# Altium footprint library 7.接插件封装.PcbLib: 201 footprints (part 4 of 13)
Each footprint in its own frame and in the unit in brackets; x right, y up, seen from the top. Pads: shape width x height; smd on the part's side, far side on the other; paste and mask are expansions set on the pad; w line width, h text height; cw(c..) or ccw(c..) is an arc to the next point about the centre after c.
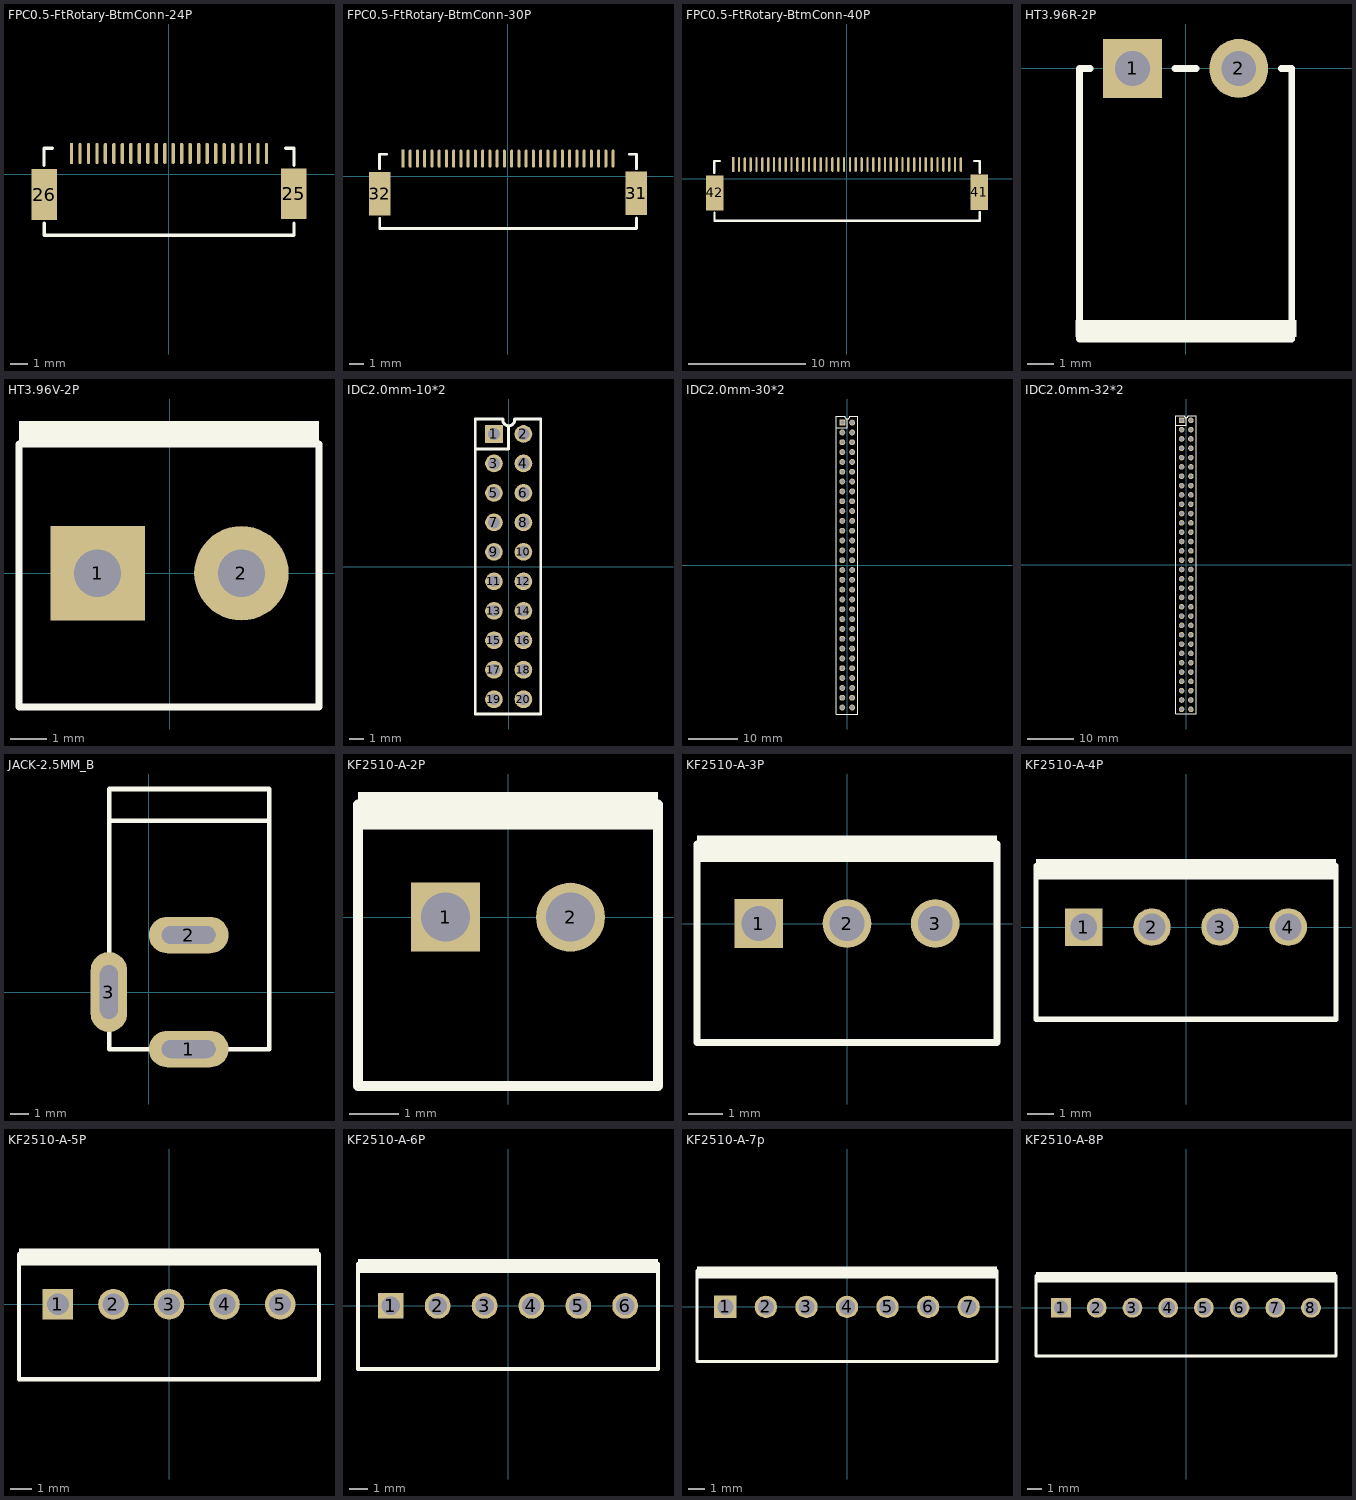
[diagram p3: the footprints below, top view; thin cyan lines are the x and y axes]

## FPC0.5-FtRotary-BtmConn-24P [mm]
pads (26):
  rect 0.2x1.25 smd: 1(-5.75,1.212)
  oval 0.2x1.25 smd: 2(-5.25,1.212) 3(-4.75,1.212) 4(-4.25,1.212) 5(-3.75,1.212) 6(-3.25,1.212) 7(-2.75,1.212) 8(-2.25,1.212) 9(-1.75,1.212) 10(-1.25,1.212) 11(-0.75,1.212) 12(-0.25,1.212) 13(0.25,1.212) 14(0.75,1.212) 15(1.25,1.212) 16(1.75,1.212) 17(2.25,1.212) 18(2.75,1.212) 19(3.25,1.212) 20(3.75,1.212) 21(4.25,1.212) 22(4.75,1.212) 23(5.25,1.212) 24(5.75,1.212)
  rect 1.5x3 smd: 25(7.35,-1.162) 26(-7.35,-1.212)
Top Overlay:
  lines w0.2: -7.375,0.512 -7.375,1.512 -6.875,1.512 ; -7.35,-2.913 -7.35,-3.607 7.353,-3.607 ; 6.875,1.512 7.375,1.512 7.375,0.512 ; 7.375,-3.607 7.375,-2.887

## FPC0.5-FtRotary-BtmConn-30P [mm]
pads (32):
  rect 0.2x1.25 smd: 1(-7.25,1.212)
  oval 0.2x1.25 smd: 2(-6.75,1.212) 3(-6.25,1.212) 4(-5.75,1.212) 5(-5.25,1.212) 6(-4.75,1.212) 7(-4.25,1.212) 8(-3.75,1.212) 9(-3.25,1.212) 10(-2.75,1.212) 11(-2.25,1.212) 12(-1.75,1.212) 13(-1.25,1.212) 14(-0.75,1.212) 15(-0.25,1.212) 16(0.25,1.212) 17(0.75,1.212) 18(1.25,1.212) 19(1.75,1.212) 20(2.25,1.212) 21(2.75,1.212) 22(3.25,1.212) 23(3.75,1.212) 24(4.25,1.212) 25(4.75,1.212) 26(5.25,1.212) 27(5.75,1.212) 28(6.25,1.212) 29(6.75,1.212) 30(7.25,1.212)
  rect 1.5x3 smd: 31(8.85,-1.162) 32(-8.85,-1.212)
Top Overlay:
  lines w0.2: -8.875,0.512 -8.875,1.512 -8.375,1.512 ; -8.85,-2.913 -8.85,-3.607 8.875,-3.607 ; 8.375,1.512 8.875,1.512 8.875,0.512 ; 8.875,-3.607 8.875,-2.887

## FPC0.5-FtRotary-BtmConn-40P [mm]
pads (42):
  rect 0.2x1.25 smd: 1(-9.75,1.212)
  oval 0.2x1.25 smd: 2(-9.25,1.212) 3(-8.75,1.212) 4(-8.25,1.212) 5(-7.75,1.212) 6(-7.25,1.212) 7(-6.75,1.212) 8(-6.25,1.212) 9(-5.75,1.212) 10(-5.25,1.212) 11(-4.75,1.212) 12(-4.25,1.212) 13(-3.75,1.212) 14(-3.25,1.212) 15(-2.75,1.212) 16(-2.25,1.212) 17(-1.75,1.212) 18(-1.25,1.212) 19(-0.75,1.212) 20(-0.25,1.212) 21(0.25,1.212) 22(0.75,1.212) 23(1.25,1.212) 24(1.75,1.212) 25(2.25,1.212) 26(2.75,1.212) 27(3.25,1.212) 28(3.75,1.212) 29(4.25,1.212) 30(4.75,1.212) 31(5.25,1.212) 32(5.75,1.212) 33(6.25,1.212) 34(6.75,1.212) 35(7.25,1.212) 36(7.75,1.212) 37(8.25,1.212) 38(8.75,1.212) 39(9.25,1.212) 40(9.75,1.212)
  rect 1.5x3 smd: 41(11.35,-1.162) 42(-11.35,-1.212)
Top Overlay:
  lines w0.2: -11.375,0.512 -11.375,1.512 -10.875,1.512 ; -11.35,-2.913 -11.35,-3.607 11.375,-3.607 11.375,-2.887 ; 10.875,1.512 11.375,1.512 11.375,0.512

## HT3.96R-2P [mm]
height 7.4
pads (2):
  rect 2.2x2.2 hole 1.3: 1(-1.98,0)
  round 2.2 hole 1.3: 2(1.98,0)
Top Overlay:
  rectangle: -4.116,-10.033 4.139,-9.398
  lines w0.254: -3.564,0 -3.96,0 -3.96,-10.1 3.96,-10.1 3.96,0 3.564,0 ; -0.396,0 0.396,0

## HT3.96V-2P [mm]
pads (2):
  rect 2.6x2.6 hole 1.3: 1(-1.98,0)
  round 2.6 hole 1.3: 2(1.98,0)
Top Overlay:
  rectangle: -4.141,3.556 4.114,4.191
  lines w0.2: -4.141,-3.683 4.114,-3.683 4.114,3.556 -4.141,3.556 -4.141,-3.683

## IDC2.0mm-10*2 [mm]
pads (20):
  rect 1.2x1.2 hole 0.8: 1(-1,9)
  round 1.2 hole 0.8: 2(1,9) 3(-1,7) 4(1,7) 5(-1,5) 6(1,5) 7(-1,3) 8(1,3) 9(-1,1) 10(1,1) 11(-1,-1) 12(1,-1) 13(-1,-3) 14(1,-3) 15(-1,-5) 16(1,-5) 17(-1,-7) 18(1,-7) 19(-1,-9) 20(1,-9)
Top Overlay:
  lines w0.2: -2.27,7.984 -0.016,7.984 0,8 0,9.5 ; -0.4,9.954 ccw(c0,9.954) 0.4,9.954 ; -0.4,10 -2.27,10 -2.27,-10 2.175,-10 2.175,10 0.4,10

## IDC2.0mm-30*2 [mm]
pads (60):
  rect 1.2x1.2 hole 0.8: 1(-1,29)
  round 1.2 hole 0.8: 2(1,29) 3(-1,27) 4(1,27) 5(-1,25) 6(1,25) 7(-1,23) 8(1,23) 9(-1,21) 10(1,21) 11(-1,19) 12(1,19) 13(-1,17) 14(1,17) 15(-1,15) 16(1,15) 17(-1,13) 18(1,13) 19(-1,11) 20(1,11) 21(-1,9) 22(1,9) 23(-1,7) 24(1,7) 25(-1,5) 26(1,5) 27(-1,3) 28(1,3) 29(-1,1) 30(1,1) 31(-1,-1) 32(1,-1) 33(-1,-3) 34(1,-3) 35(-1,-5) 36(1,-5) 37(-1,-7) 38(1,-7) 39(-1,-9) 40(1,-9) 41(-1,-11) 42(1,-11) 43(-1,-13) 44(1,-13) 45(-1,-15) 46(1,-15) 47(-1,-17) 48(1,-17) 49(-1,-19) 50(1,-19) 51(-1,-21) 52(1,-21) 53(-1,-23) 54(1,-23) 55(-1,-25) 56(1,-25) 57(-1,-27) 58(1,-27) 59(-1,-29) 60(1,-29)
Top Overlay:
  lines w0.2: -2.27,27.984 0.016,27.984 0.016,29.762 ; -2.27,-30.309 2.175,-30.309 2.175,30.254 0.5,30.254 cw(c0,30.254) -0.5,30.254 -2.27,30.254 -2.27,-30.309

## IDC2.0mm-32*2 [mm]
pads (64):
  rect 1.2x1.2 hole 0.8: 1(-1,31)
  round 1.2 hole 0.8: 2(1,31) 3(-1,29) 4(1,29) 5(-1,27) 6(1,27) 7(-1,25) 8(1,25) 9(-1,23) 10(1,23) 11(-1,21) 12(1,21) 13(-1,19) 14(1,19) 15(-1,17) 16(1,17) 17(-1,15) 18(1,15) 19(-1,13) 20(1,13) 21(-1,11) 22(1,11) 23(-1,9) 24(1,9) 25(-1,7) 26(1,7) 27(-1,5) 28(1,5) 29(-1,3) 30(1,3) 31(-1,1) 32(1,1) 33(-1,-1) 34(1,-1) 35(-1,-3) 36(1,-3) 37(-1,-5) 38(1,-5) 39(-1,-7) 40(1,-7) 41(-1,-9) 42(1,-9) 43(-1,-11) 44(1,-11) 45(-1,-13) 46(1,-13) 47(-1,-15) 48(1,-15) 49(-1,-17) 50(1,-17) 51(-1,-19) 52(1,-19) 53(-1,-21) 54(1,-21) 55(-1,-23) 56(1,-23) 57(-1,-25) 58(1,-25) 59(-1,-27) 60(1,-27) 61(-1,-29) 62(1,-29) 63(-1,-31) 64(1,-31)
Top Overlay:
  lines w0.2: -2.27,29.984 -0.016,29.984 0,30 0,31.5 ; -0.4,31.954 ccw(c0,31.954) 0.4,31.954 ; -0.4,32 -2.27,32 -2.27,-32 2.175,-32 2.175,32 0.4,32

## JACK-2.5MM_B [mil]
pads (3):
  oval 175x80 hole 39.37 slot 118.11 at 0 deg: 1(87.5,-125) 2(87.5,125)
  oval 80x175 hole 39.37 slot 118.11 at 90 deg: 3(-87.5,0)
Top Overlay:
  lines w10: -82.5,375 257.5,375 ; -86.5,-125 -86.5,445 263.5,445 263.5,-125 -86.5,-125
3D body: height 393.7, standoff 0, extent -102.5,-135 277.5,455

## KF2510-A-2P [mm]
pads (2):
  rect 1.4x1.4 hole 1: 1(-1.27,0)
  round 1.4 hole 1: 2(1.27,0)
Top Overlay:
  rectangle: -3.048,1.778 3.048,2.54
  lines w0.2: -3.048,2.286 -3.048,-3.429 3.048,-3.429 3.048,2.286

## KF2510-A-3P [mm]
pads (3):
  rect 1.4x1.4 hole 1: 1(-2.54,0)
  round 1.4 hole 1: 2(0,0) 3(2.54,0)
Top Overlay:
  rectangle: -4.318,1.778 4.318,2.54
  lines w0.2: -4.318,2.286 -4.318,-3.429 4.318,-3.429 4.318,2.286

## KF2510-A-4P [mm]
pads (4):
  rect 1.4x1.4 hole 1: 1(-3.81,0)
  round 1.4 hole 1: 2(-1.27,0) 3(1.27,0) 4(3.81,0)
Top Overlay:
  rectangle: -5.588,1.778 5.588,2.54
  lines w0.2: -5.588,2.286 -5.588,-3.429 5.588,-3.429 5.588,2.286

## KF2510-A-5P [mm]
pads (5):
  rect 1.4x1.4 hole 1: 1(-5.08,0)
  round 1.4 hole 1: 2(-2.54,0) 3(0,0) 4(2.54,0) 5(5.08,0)
Top Overlay:
  rectangle: -6.858,1.778 6.858,2.54
  lines w0.2: -6.858,2.286 -6.858,-3.429 6.858,-3.429 6.858,2.286

## KF2510-A-6P [mm]
pads (6):
  rect 1.4x1.4 hole 1: 1(-6.35,0)
  round 1.4 hole 1: 2(-3.81,0) 3(-1.27,0) 4(1.27,0) 5(3.81,0) 6(6.35,0)
Top Overlay:
  rectangle: -8.128,1.778 8.128,2.54
  lines w0.2: -8.128,2.286 -8.128,-3.429 8.128,-3.429 8.128,2.286

## KF2510-A-7p [mm]
pads (7):
  rect 1.4x1.4 hole 1: 1(-7.62,0)
  round 1.4 hole 1: 2(-5.08,0) 3(-2.54,0) 4(0,0) 5(2.54,0) 6(5.08,0) 7(7.62,0)
Top Overlay:
  rectangle: -9.398,1.778 9.398,2.54
  lines w0.2: -9.398,2.286 -9.398,-3.429 9.398,-3.429 9.398,2.286

## KF2510-A-8P [mm]
pads (8):
  rect 1.4x1.4 hole 1: 1(-8.89,0)
  round 1.4 hole 1: 2(-6.35,0) 3(-3.81,0) 4(-1.27,0) 5(1.27,0) 6(3.81,0) 7(6.35,0) 8(8.89,0)
Top Overlay:
  rectangle: -10.668,1.778 10.668,2.54
  lines w0.2: -10.668,2.286 -10.668,-3.429 10.668,-3.429 10.668,2.286